# EAGLE library part LT3511 (library PowerProducts)
LT-Spice library generated with : ltspice.ulp from: E:/Programme/LTC/LTspiceIV/lib/sym/PowerProducts/LT3513*.asy at 05.10.2012 12:30:02
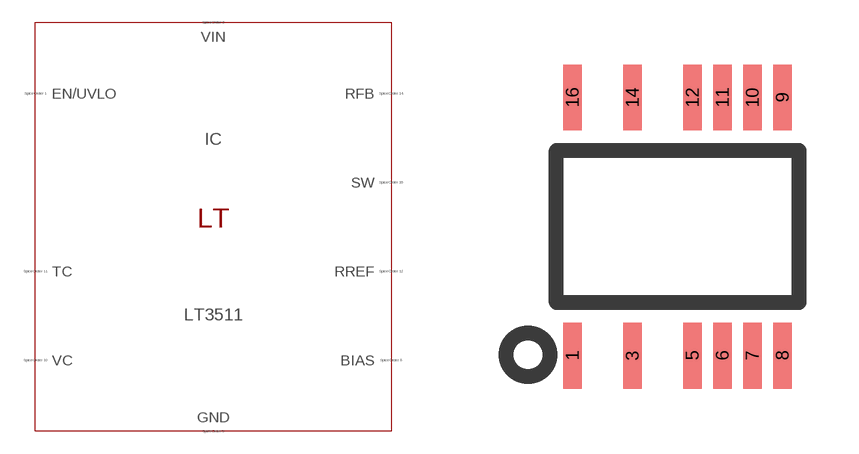
[diagram p70: symbol with the pads of MSOP16-12(MS); footprint MSOP16-12(MS)]

Designator prefix IC

## LT3511 (SPICEMODEL: LT3511.sub; SPICEPREFIX: X; VALUE2: LT3511)  [MSOP16-12(MS)]
1  EN/UVLO  pas
3  VIN  pas
5  GND  pas
6  BIAS  pas
8  GND  pas
9  GND  pas
10  VC  pas
11  TC  pas
12  RREF  pas
14  RFB  pas
16  SW  pas

## Footprint MSOP16-12(MS) (pad centres in mm)
Package generated from: MSOP16-12(MS).asc (!PADS-POWERPCB-V9.3-BASIC! DESIGN DATABASE ASCII FILE 1.0) with :import-pads-powerpcb-v5.ulp Version 1.0.1 at 04.10.2012 14:11:20
smd 0.458 x 1.65: 1 -2.625,-3.225; 3 -1.125,-3.225; 5 0.375,-3.225; 6 1.125,-3.225; 7 1.875,-3.225; 8 2.625,-3.225; 9 2.625,3.225; 10 1.875,3.225; 11 1.125,3.225; 12 0.375,3.225; 14 -1.125,3.225; 16 -2.625,3.225